# EAGLE library part SCHA4B0419 (library dr-library)
ALPS MicroSD Connector Manufacturer No. SCHA4B0419 http://www2.mouser.com/ProductDetail/ALPS/SCHA4B0419/?qs=sGAEpiMZZMuJakaoiLiBpsFSICW6cUCj0ci6XSEAGXcTwv1T7afZMw%3d%3d
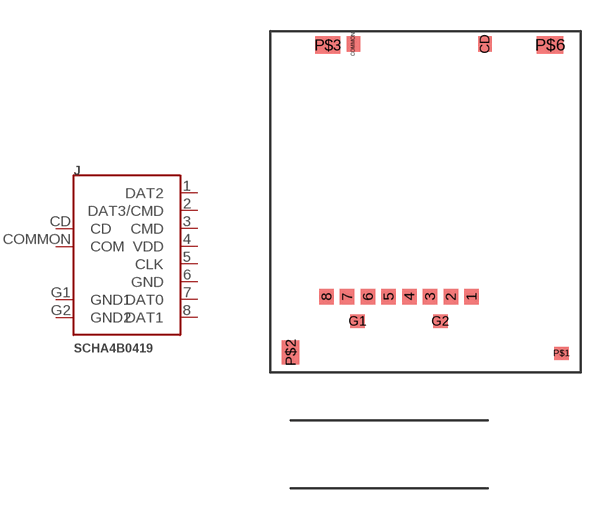
[diagram p20: symbol with the pads of MICROSD_SCHA4B0419; footprint MICROSD_SCHA4B0419]

Designator prefix J

## SCHA4B0419  [MICROSD_SCHA4B0419]
1  DAT2
2  DAT3/CMD
3  CMD
4  VDD
5  CLK
6  GND
7  DAT0
8  DAT1
CD  CD
COMMON  COM
G1  GND1
G2  GND2

## Footprint MICROSD_SCHA4B0419 (pad centres in mm)
smd 0.7 x 0.75: 1 2.225,-12.825; 2 1.225,-12.825; 3 0.225,-12.825; 4 -0.775,-12.825; 5 -1.775,-12.825; 6 -2.775,-12.825; 7 -3.775,-12.825; 8 -4.775,-12.825
smd 0.65 x 0.75: CD 2.875,-0.625; COMMON -3.475,-0.625
smd 0.7 x 0.65: G1 -3.275,-14.025; G2 0.725,-14.025; P$1 6.575,-15.575
smd 0.855 x 1.15: P$2 -6.515,-15.525
smd 1.2 x 0.85: P$3 -4.713,-0.675
smd 1.3 x 0.85: P$6 6.013,-0.675